# Altium footprint library 416131160805.PcbLib: 1 footprints
Each footprint in its own frame and in the unit in brackets; x right, y up, seen from the top. Pads: shape width x height; smd on the part's side, far side on the other; paste and mask are expansions set on the pad; w line width, h text height; cw(c..) or ccw(c..) is an arc to the next point about the centre after c.
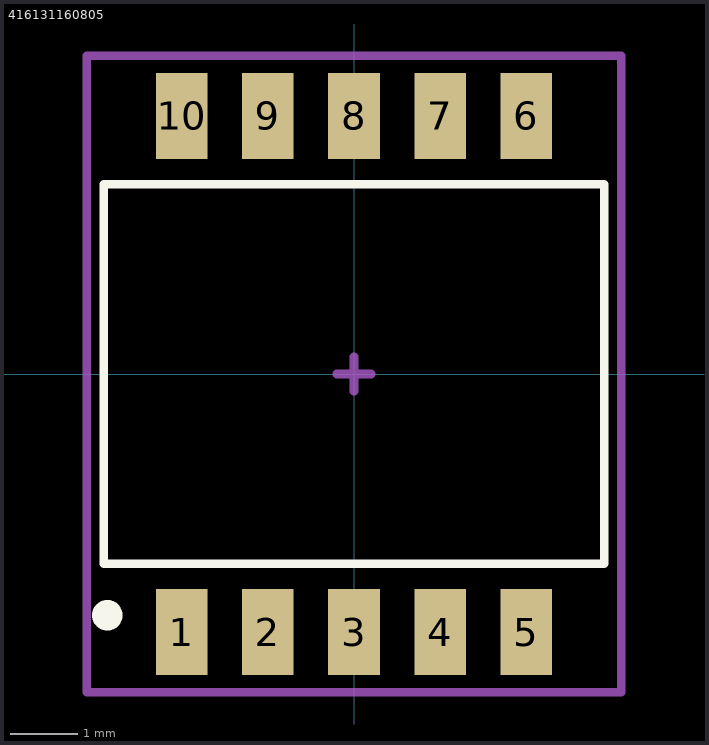
[diagram p0: the footprint, top view; thin cyan lines are the x and y axes]

## 416131160805 [mm] "05p, 1.27mm Pitch, Horizontal, HP Type, SMT, flat Actuator, black, with Tape, T&R"
height 3.3
pads (10):
  rect 0.76x1.27 smd: 1(-2.54,-3.81) 2(-1.27,-3.81) 3(0,-3.81) 4(1.27,-3.81) 5(2.54,-3.81) 6(2.54,3.81) 7(1.27,3.81) 8(0,3.81) 9(-1.27,3.81) 10(-2.54,3.81)
Top Overlay:
  circle w0.25: c-3.64,-3.56 r0.1
  lines w0.127: -3.695,-2.8 3.695,-2.8 3.695,2.8 -3.695,2.8 -3.695,-2.8
Mechanical 15:
  lines w0.127: -0.254,0 0.254,0 ; 0,-0.254 0,0.254 ; -3.945,-4.695 3.945,-4.695 3.945,4.695 -3.945,4.695 -3.945,-4.695
3D body "416131160805.stp": height 2.06, standoff -0.04, extent -3.695,-4 3.695,4